# Altium footprint library QFP_Shrink_Sq_50P_Side_M.PcbLib: 32 footprints (part 2 of 3)
Each footprint in its own frame and in the unit in brackets; x right, y up, seen from the top. Pads: shape width x height; smd on the part's side, far side on the other; paste and mask are expansions set on the pad; w line width, h text height; cw(c..) or ccw(c..) is an arc to the next point about the centre after c.
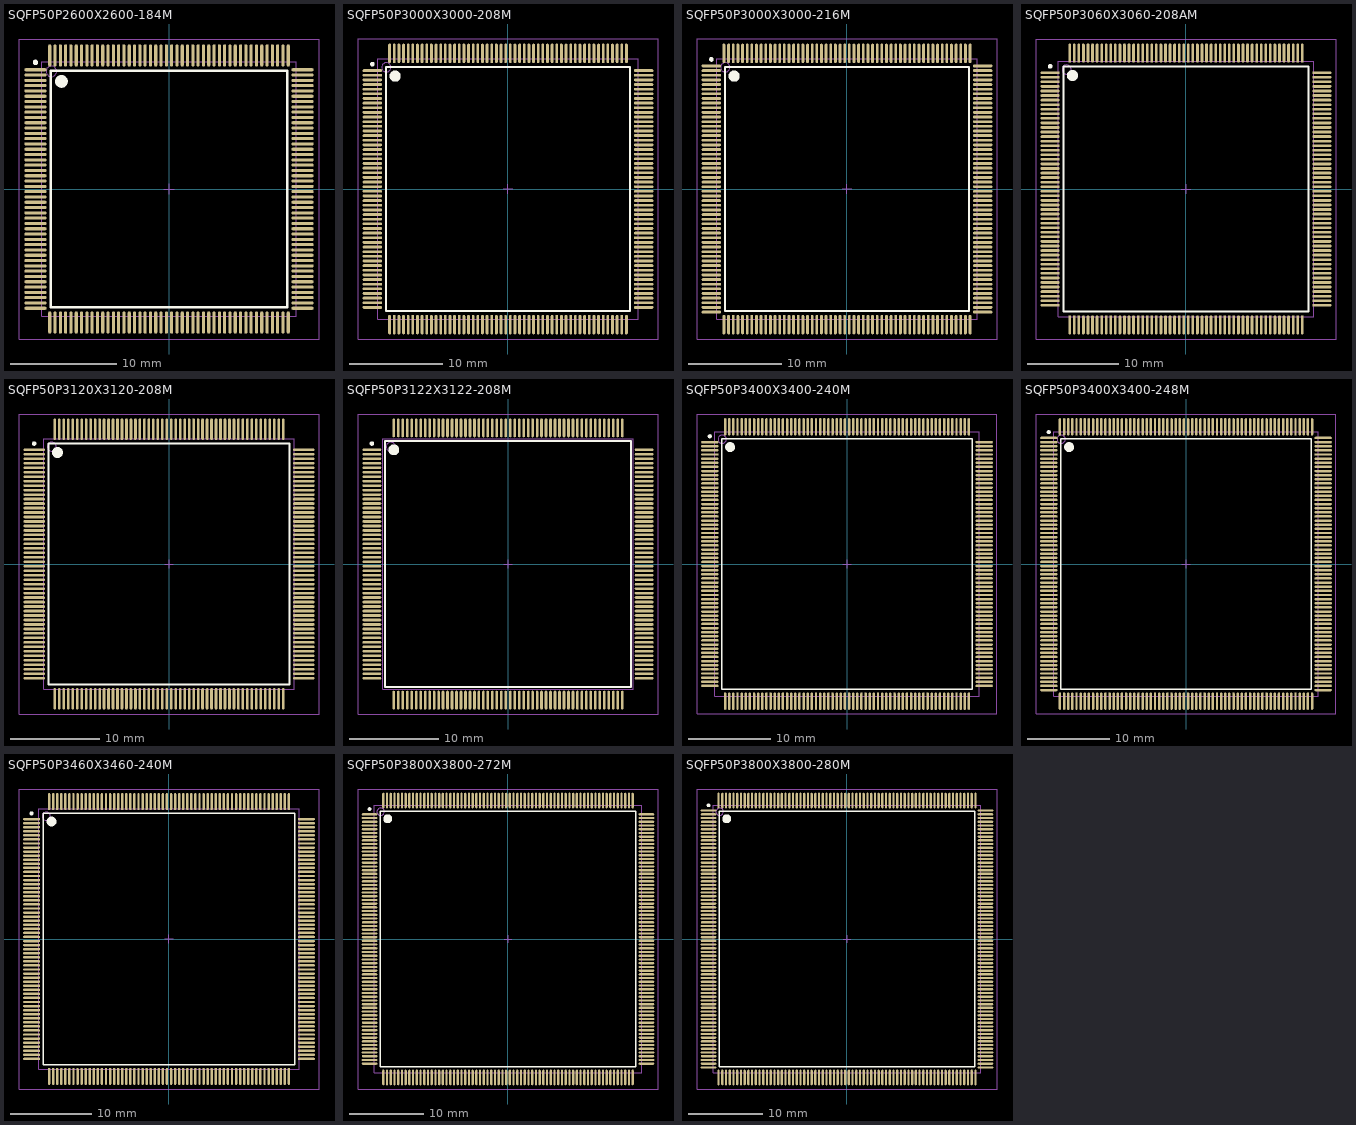
[diagram p1: the footprints below, top view; thin cyan lines are the x and y axes]

## SQFP50P2600X2600-184M [mm] "Shrink QFP, 184-Leads, Body 24x24mm, Pitch 0.5mm, IPC Low Density"
height 3.2
pads (184):
  oval 2.1x0.3 smd: 1(-12.6,11.25) 2(-12.6,10.75) 3(-12.6,10.25) 4(-12.6,9.75) 5(-12.6,9.25) 6(-12.6,8.75) 7(-12.6,8.25) 8(-12.6,7.75) 9(-12.6,7.25) 10(-12.6,6.75) 11(-12.6,6.25) 12(-12.6,5.75) 13(-12.6,5.25) 14(-12.6,4.75) 15(-12.6,4.25) 16(-12.6,3.75) 17(-12.6,3.25) 18(-12.6,2.75) 19(-12.6,2.25) 20(-12.6,1.75) 21(-12.6,1.25) 22(-12.6,0.75) 23(-12.6,0.25) 24(-12.6,-0.25) 25(-12.6,-0.75) 26(-12.6,-1.25) 27(-12.6,-1.75) 28(-12.6,-2.25) 29(-12.6,-2.75) 30(-12.6,-3.25) 31(-12.6,-3.75) 32(-12.6,-4.25) 33(-12.6,-4.75) 34(-12.6,-5.25) 35(-12.6,-5.75) 36(-12.6,-6.25) 37(-12.6,-6.75) 38(-12.6,-7.25) 39(-12.6,-7.75) 40(-12.6,-8.25) 41(-12.6,-8.75) 42(-12.6,-9.25) 43(-12.6,-9.75) 44(-12.6,-10.25) 45(-12.6,-10.75) 46(-12.6,-11.25) 93(12.6,-11.25) 94(12.6,-10.75) 95(12.6,-10.25) 96(12.6,-9.75) 97(12.6,-9.25) 98(12.6,-8.75) 99(12.6,-8.25) 100(12.6,-7.75) 101(12.6,-7.25) 102(12.6,-6.75) 103(12.6,-6.25) 104(12.6,-5.75) 105(12.6,-5.25) 106(12.6,-4.75) 107(12.6,-4.25) 108(12.6,-3.75) 109(12.6,-3.25) 110(12.6,-2.75) 111(12.6,-2.25) 112(12.6,-1.75) 113(12.6,-1.25) 114(12.6,-0.75) 115(12.6,-0.25) 116(12.6,0.25) 117(12.6,0.75) 118(12.6,1.25) 119(12.6,1.75) 120(12.6,2.25) 121(12.6,2.75) 122(12.6,3.25) 123(12.6,3.75) 124(12.6,4.25) 125(12.6,4.75) 126(12.6,5.25) 127(12.6,5.75) 128(12.6,6.25) 129(12.6,6.75) 130(12.6,7.25) 131(12.6,7.75) 132(12.6,8.25) 133(12.6,8.75) 134(12.6,9.25) 135(12.6,9.75) 136(12.6,10.25) 137(12.6,10.75) 138(12.6,11.25)
  oval 0.3x2.1 smd: 47(-11.25,-12.6) 48(-10.75,-12.6) 49(-10.25,-12.6) 50(-9.75,-12.6) 51(-9.25,-12.6) 52(-8.75,-12.6) 53(-8.25,-12.6) 54(-7.75,-12.6) 55(-7.25,-12.6) 56(-6.75,-12.6) 57(-6.25,-12.6) 58(-5.75,-12.6) 59(-5.25,-12.6) 60(-4.75,-12.6) 61(-4.25,-12.6) 62(-3.75,-12.6) 63(-3.25,-12.6) 64(-2.75,-12.6) 65(-2.25,-12.6) 66(-1.75,-12.6) 67(-1.25,-12.6) 68(-0.75,-12.6) 69(-0.25,-12.6) 70(0.25,-12.6) 71(0.75,-12.6) 72(1.25,-12.6) 73(1.75,-12.6) 74(2.25,-12.6) 75(2.75,-12.6) 76(3.25,-12.6) 77(3.75,-12.6) 78(4.25,-12.6) 79(4.75,-12.6) 80(5.25,-12.6) 81(5.75,-12.6) 82(6.25,-12.6) 83(6.75,-12.6) 84(7.25,-12.6) 85(7.75,-12.6) 86(8.25,-12.6) 87(8.75,-12.6) 88(9.25,-12.6) 89(9.75,-12.6) 90(10.25,-12.6) 91(10.75,-12.6) 92(11.25,-12.6) 139(11.25,12.6) 140(10.75,12.6) 141(10.25,12.6) 142(9.75,12.6) 143(9.25,12.6) 144(8.75,12.6) 145(8.25,12.6) 146(7.75,12.6) 147(7.25,12.6) 148(6.75,12.6) 149(6.25,12.6) 150(5.75,12.6) 151(5.25,12.6) 152(4.75,12.6) 153(4.25,12.6) 154(3.75,12.6) 155(3.25,12.6) 156(2.75,12.6) 157(2.25,12.6) 158(1.75,12.6) 159(1.25,12.6) 160(0.75,12.6) 161(0.25,12.6) 162(-0.25,12.6) 163(-0.75,12.6) 164(-1.25,12.6) 165(-1.75,12.6) 166(-2.25,12.6) 167(-2.75,12.6) 168(-3.25,12.6) 169(-3.75,12.6) 170(-4.25,12.6) 171(-4.75,12.6) 172(-5.25,12.6) 173(-5.75,12.6) 174(-6.25,12.6) 175(-6.75,12.6) 176(-7.25,12.6) 177(-7.75,12.6) 178(-8.25,12.6) 179(-8.75,12.6) 180(-9.25,12.6) 181(-9.75,12.6) 182(-10.25,12.6) 183(-10.75,12.6) 184(-11.25,12.6)
Top Overlay:
  circle w0.6: c-10.15,10.15 r0.3
  circle w0.25: c-12.6,11.95 r0.125
  lines w0.2: -11.15,-11.15 11.15,-11.15 11.15,11.15 -11.15,11.15 -11.15,-11.15
Mechanical 13:
  circle w0.1: c-11.1,11.1 r0.5
  lines w0.1: -12,-12 12,-12 12,12 -12,12 -12,-12
Mechanical 15:
  lines w0.1: -0.5,0 0.5,0 ; 0,-0.5 0,0.5 ; -14.15,-14.15 14.15,-14.15 14.15,14.15 -14.15,14.15 -14.15,-14.15
3D body: height 3.2, standoff 0, extent -12,-12 12,12

## SQFP50P3000X3000-208M [mm] "Shrink QFP, 208-Leads, Body 28x28mm, Pitch 0.5mm, IPC Low Density"
height 3.75
pads (208):
  oval 2.1x0.3 smd: 1(-14.6,12.75) 2(-14.6,12.25) 3(-14.6,11.75) 4(-14.6,11.25) 5(-14.6,10.75) 6(-14.6,10.25) 7(-14.6,9.75) 8(-14.6,9.25) 9(-14.6,8.75) 10(-14.6,8.25) 11(-14.6,7.75) 12(-14.6,7.25) 13(-14.6,6.75) 14(-14.6,6.25) 15(-14.6,5.75) 16(-14.6,5.25) 17(-14.6,4.75) 18(-14.6,4.25) 19(-14.6,3.75) 20(-14.6,3.25) 21(-14.6,2.75) 22(-14.6,2.25) 23(-14.6,1.75) 24(-14.6,1.25) 25(-14.6,0.75) 26(-14.6,0.25) 27(-14.6,-0.25) 28(-14.6,-0.75) 29(-14.6,-1.25) 30(-14.6,-1.75) 31(-14.6,-2.25) 32(-14.6,-2.75) 33(-14.6,-3.25) 34(-14.6,-3.75) 35(-14.6,-4.25) 36(-14.6,-4.75) 37(-14.6,-5.25) 38(-14.6,-5.75) 39(-14.6,-6.25) 40(-14.6,-6.75) 41(-14.6,-7.25) 42(-14.6,-7.75) 43(-14.6,-8.25) 44(-14.6,-8.75) 45(-14.6,-9.25) 46(-14.6,-9.75) 47(-14.6,-10.25) 48(-14.6,-10.75) 49(-14.6,-11.25) 50(-14.6,-11.75) 51(-14.6,-12.25) 52(-14.6,-12.75) 105(14.6,-12.75) 106(14.6,-12.25) 107(14.6,-11.75) 108(14.6,-11.25) 109(14.6,-10.75) 110(14.6,-10.25) 111(14.6,-9.75) 112(14.6,-9.25) 113(14.6,-8.75) 114(14.6,-8.25) 115(14.6,-7.75) 116(14.6,-7.25) 117(14.6,-6.75) 118(14.6,-6.25) 119(14.6,-5.75) 120(14.6,-5.25) 121(14.6,-4.75) 122(14.6,-4.25) 123(14.6,-3.75) 124(14.6,-3.25) 125(14.6,-2.75) 126(14.6,-2.25) 127(14.6,-1.75) 128(14.6,-1.25) 129(14.6,-0.75) 130(14.6,-0.25) 131(14.6,0.25) 132(14.6,0.75) 133(14.6,1.25) 134(14.6,1.75) 135(14.6,2.25) 136(14.6,2.75) 137(14.6,3.25) 138(14.6,3.75) 139(14.6,4.25) 140(14.6,4.75) 141(14.6,5.25) 142(14.6,5.75) 143(14.6,6.25) 144(14.6,6.75) 145(14.6,7.25) 146(14.6,7.75) 147(14.6,8.25) 148(14.6,8.75) 149(14.6,9.25) 150(14.6,9.75) 151(14.6,10.25) 152(14.6,10.75) 153(14.6,11.25) 154(14.6,11.75) 155(14.6,12.25) 156(14.6,12.75)
  oval 0.3x2.1 smd: 53(-12.75,-14.6) 54(-12.25,-14.6) 55(-11.75,-14.6) 56(-11.25,-14.6) 57(-10.75,-14.6) 58(-10.25,-14.6) 59(-9.75,-14.6) 60(-9.25,-14.6) 61(-8.75,-14.6) 62(-8.25,-14.6) 63(-7.75,-14.6) 64(-7.25,-14.6) 65(-6.75,-14.6) 66(-6.25,-14.6) 67(-5.75,-14.6) 68(-5.25,-14.6) 69(-4.75,-14.6) 70(-4.25,-14.6) 71(-3.75,-14.6) 72(-3.25,-14.6) 73(-2.75,-14.6) 74(-2.25,-14.6) 75(-1.75,-14.6) 76(-1.25,-14.6) 77(-0.75,-14.6) 78(-0.25,-14.6) 79(0.25,-14.6) 80(0.75,-14.6) 81(1.25,-14.6) 82(1.75,-14.6) 83(2.25,-14.6) 84(2.75,-14.6) 85(3.25,-14.6) 86(3.75,-14.6) 87(4.25,-14.6) 88(4.75,-14.6) 89(5.25,-14.6) 90(5.75,-14.6) 91(6.25,-14.6) 92(6.75,-14.6) 93(7.25,-14.6) 94(7.75,-14.6) 95(8.25,-14.6) 96(8.75,-14.6) 97(9.25,-14.6) 98(9.75,-14.6) 99(10.25,-14.6) 100(10.75,-14.6) 101(11.25,-14.6) 102(11.75,-14.6) 103(12.25,-14.6) 104(12.75,-14.6) 157(12.75,14.6) 158(12.25,14.6) 159(11.75,14.6) 160(11.25,14.6) 161(10.75,14.6) 162(10.25,14.6) 163(9.75,14.6) 164(9.25,14.6) 165(8.75,14.6) 166(8.25,14.6) 167(7.75,14.6) 168(7.25,14.6) 169(6.75,14.6) 170(6.25,14.6) 171(5.75,14.6) 172(5.25,14.6) 173(4.75,14.6) 174(4.25,14.6) 175(3.75,14.6) 176(3.25,14.6) 177(2.75,14.6) 178(2.25,14.6) 179(1.75,14.6) 180(1.25,14.6) 181(0.75,14.6) 182(0.25,14.6) 183(-0.25,14.6) 184(-0.75,14.6) 185(-1.25,14.6) 186(-1.75,14.6) 187(-2.25,14.6) 188(-2.75,14.6) 189(-3.25,14.6) 190(-3.75,14.6) 191(-4.25,14.6) 192(-4.75,14.6) 193(-5.25,14.6) 194(-5.75,14.6) 195(-6.25,14.6) 196(-6.75,14.6) 197(-7.25,14.6) 198(-7.75,14.6) 199(-8.25,14.6) 200(-8.75,14.6) 201(-9.25,14.6) 202(-9.75,14.6) 203(-10.25,14.6) 204(-10.75,14.6) 205(-11.25,14.6) 206(-11.75,14.6) 207(-12.25,14.6) 208(-12.75,14.6)
Top Overlay:
  circle w0.6: c-12.15,12.15 r0.3
  circle w0.25: c-14.6,13.45 r0.125
  lines w0.2: -13.15,-13.15 13.15,-13.15 13.15,13.15 -13.15,13.15 -13.15,-13.15
Mechanical 13:
  circle w0.1: c-13.1,13.1 r0.5
  lines w0.1: -14,-14 14,-14 14,14 -14,14 -14,-14
Mechanical 15:
  lines w0.1: -0.5,0 0.5,0 ; 0,-0.5 0,0.5 ; -16.15,-16.15 16.15,-16.15 16.15,16.15 -16.15,16.15 -16.15,-16.15
3D body: height 3.75, standoff 0, extent -14,-14 14,14

## SQFP50P3000X3000-216M [mm] "Shrink QFP, 216-Leads, Body 28x28mm, Pitch 0.5mm, IPC Low Density"
height 3.75
pads (216):
  oval 2.1x0.3 smd: 1(-14.6,13.25) 2(-14.6,12.75) 3(-14.6,12.25) 4(-14.6,11.75) 5(-14.6,11.25) 6(-14.6,10.75) 7(-14.6,10.25) 8(-14.6,9.75) 9(-14.6,9.25) 10(-14.6,8.75) 11(-14.6,8.25) 12(-14.6,7.75) 13(-14.6,7.25) 14(-14.6,6.75) 15(-14.6,6.25) 16(-14.6,5.75) 17(-14.6,5.25) 18(-14.6,4.75) 19(-14.6,4.25) 20(-14.6,3.75) 21(-14.6,3.25) 22(-14.6,2.75) 23(-14.6,2.25) 24(-14.6,1.75) 25(-14.6,1.25) 26(-14.6,0.75) 27(-14.6,0.25) 28(-14.6,-0.25) 29(-14.6,-0.75) 30(-14.6,-1.25) 31(-14.6,-1.75) 32(-14.6,-2.25) 33(-14.6,-2.75) 34(-14.6,-3.25) 35(-14.6,-3.75) 36(-14.6,-4.25) 37(-14.6,-4.75) 38(-14.6,-5.25) 39(-14.6,-5.75) 40(-14.6,-6.25) 41(-14.6,-6.75) 42(-14.6,-7.25) 43(-14.6,-7.75) 44(-14.6,-8.25) 45(-14.6,-8.75) 46(-14.6,-9.25) 47(-14.6,-9.75) 48(-14.6,-10.25) 49(-14.6,-10.75) 50(-14.6,-11.25) 51(-14.6,-11.75) 52(-14.6,-12.25) 53(-14.6,-12.75) 54(-14.6,-13.25) 109(14.6,-13.25) 110(14.6,-12.75) 111(14.6,-12.25) 112(14.6,-11.75) 113(14.6,-11.25) 114(14.6,-10.75) 115(14.6,-10.25) 116(14.6,-9.75) 117(14.6,-9.25) 118(14.6,-8.75) 119(14.6,-8.25) 120(14.6,-7.75) 121(14.6,-7.25) 122(14.6,-6.75) 123(14.6,-6.25) 124(14.6,-5.75) 125(14.6,-5.25) 126(14.6,-4.75) 127(14.6,-4.25) 128(14.6,-3.75) 129(14.6,-3.25) 130(14.6,-2.75) 131(14.6,-2.25) 132(14.6,-1.75) 133(14.6,-1.25) 134(14.6,-0.75) 135(14.6,-0.25) 136(14.6,0.25) 137(14.6,0.75) 138(14.6,1.25) 139(14.6,1.75) 140(14.6,2.25) 141(14.6,2.75) 142(14.6,3.25) 143(14.6,3.75) 144(14.6,4.25) 145(14.6,4.75) 146(14.6,5.25) 147(14.6,5.75) 148(14.6,6.25) 149(14.6,6.75) 150(14.6,7.25) 151(14.6,7.75) 152(14.6,8.25) 153(14.6,8.75) 154(14.6,9.25) 155(14.6,9.75) 156(14.6,10.25) 157(14.6,10.75) 158(14.6,11.25) 159(14.6,11.75) 160(14.6,12.25) 161(14.6,12.75) 162(14.6,13.25)
  oval 0.3x2.1 smd: 55(-13.25,-14.6) 56(-12.75,-14.6) 57(-12.25,-14.6) 58(-11.75,-14.6) 59(-11.25,-14.6) 60(-10.75,-14.6) 61(-10.25,-14.6) 62(-9.75,-14.6) 63(-9.25,-14.6) 64(-8.75,-14.6) 65(-8.25,-14.6) 66(-7.75,-14.6) 67(-7.25,-14.6) 68(-6.75,-14.6) 69(-6.25,-14.6) 70(-5.75,-14.6) 71(-5.25,-14.6) 72(-4.75,-14.6) 73(-4.25,-14.6) 74(-3.75,-14.6) 75(-3.25,-14.6) 76(-2.75,-14.6) 77(-2.25,-14.6) 78(-1.75,-14.6) 79(-1.25,-14.6) 80(-0.75,-14.6) 81(-0.25,-14.6) 82(0.25,-14.6) 83(0.75,-14.6) 84(1.25,-14.6) 85(1.75,-14.6) 86(2.25,-14.6) 87(2.75,-14.6) 88(3.25,-14.6) 89(3.75,-14.6) 90(4.25,-14.6) 91(4.75,-14.6) 92(5.25,-14.6) 93(5.75,-14.6) 94(6.25,-14.6) 95(6.75,-14.6) 96(7.25,-14.6) 97(7.75,-14.6) 98(8.25,-14.6) 99(8.75,-14.6) 100(9.25,-14.6) 101(9.75,-14.6) 102(10.25,-14.6) 103(10.75,-14.6) 104(11.25,-14.6) 105(11.75,-14.6) 106(12.25,-14.6) 107(12.75,-14.6) 108(13.25,-14.6) 163(13.25,14.6) 164(12.75,14.6) 165(12.25,14.6) 166(11.75,14.6) 167(11.25,14.6) 168(10.75,14.6) 169(10.25,14.6) 170(9.75,14.6) 171(9.25,14.6) 172(8.75,14.6) 173(8.25,14.6) 174(7.75,14.6) 175(7.25,14.6) 176(6.75,14.6) 177(6.25,14.6) 178(5.75,14.6) 179(5.25,14.6) 180(4.75,14.6) 181(4.25,14.6) 182(3.75,14.6) 183(3.25,14.6) 184(2.75,14.6) 185(2.25,14.6) 186(1.75,14.6) 187(1.25,14.6) 188(0.75,14.6) 189(0.25,14.6) 190(-0.25,14.6) 191(-0.75,14.6) 192(-1.25,14.6) 193(-1.75,14.6) 194(-2.25,14.6) 195(-2.75,14.6) 196(-3.25,14.6) 197(-3.75,14.6) 198(-4.25,14.6) 199(-4.75,14.6) 200(-5.25,14.6) 201(-5.75,14.6) 202(-6.25,14.6) 203(-6.75,14.6) 204(-7.25,14.6) 205(-7.75,14.6) 206(-8.25,14.6) 207(-8.75,14.6) 208(-9.25,14.6) 209(-9.75,14.6) 210(-10.25,14.6) 211(-10.75,14.6) 212(-11.25,14.6) 213(-11.75,14.6) 214(-12.25,14.6) 215(-12.75,14.6) 216(-13.25,14.6)
Top Overlay:
  circle w0.6: c-12.15,12.15 r0.3
  circle w0.25: c-14.6,13.95 r0.125
  lines w0.2: -13.15,-13.15 13.15,-13.15 13.15,13.15 -13.15,13.15 -13.15,-13.15
Mechanical 13:
  circle w0.1: c-13.1,13.1 r0.5
  lines w0.1: -14,-14 14,-14 14,14 -14,14 -14,-14
Mechanical 15:
  lines w0.1: -0.5,0 0.5,0 ; 0,-0.5 0,0.5 ; -16.15,-16.15 16.15,-16.15 16.15,16.15 -16.15,16.15 -16.15,-16.15
3D body: height 3.75, standoff 0, extent -14,-14 14,14

## SQFP50P3060X3060-208AM [mm] "Shrink QFP, 208-Leads, Body 28x28mm, Pitch 0.5mm, IPC Low Density"
height 4.1
pads (208):
  oval 2.1x0.3 smd: 1(-14.9,12.75) 2(-14.9,12.25) 3(-14.9,11.75) 4(-14.9,11.25) 5(-14.9,10.75) 6(-14.9,10.25) 7(-14.9,9.75) 8(-14.9,9.25) 9(-14.9,8.75) 10(-14.9,8.25) 11(-14.9,7.75) 12(-14.9,7.25) 13(-14.9,6.75) 14(-14.9,6.25) 15(-14.9,5.75) 16(-14.9,5.25) 17(-14.9,4.75) 18(-14.9,4.25) 19(-14.9,3.75) 20(-14.9,3.25) 21(-14.9,2.75) 22(-14.9,2.25) 23(-14.9,1.75) 24(-14.9,1.25) 25(-14.9,0.75) 26(-14.9,0.25) 27(-14.9,-0.25) 28(-14.9,-0.75) 29(-14.9,-1.25) 30(-14.9,-1.75) 31(-14.9,-2.25) 32(-14.9,-2.75) 33(-14.9,-3.25) 34(-14.9,-3.75) 35(-14.9,-4.25) 36(-14.9,-4.75) 37(-14.9,-5.25) 38(-14.9,-5.75) 39(-14.9,-6.25) 40(-14.9,-6.75) 41(-14.9,-7.25) 42(-14.9,-7.75) 43(-14.9,-8.25) 44(-14.9,-8.75) 45(-14.9,-9.25) 46(-14.9,-9.75) 47(-14.9,-10.25) 48(-14.9,-10.75) 49(-14.9,-11.25) 50(-14.9,-11.75) 51(-14.9,-12.25) 52(-14.9,-12.75) 105(14.9,-12.75) 106(14.9,-12.25) 107(14.9,-11.75) 108(14.9,-11.25) 109(14.9,-10.75) 110(14.9,-10.25) 111(14.9,-9.75) 112(14.9,-9.25) 113(14.9,-8.75) 114(14.9,-8.25) 115(14.9,-7.75) 116(14.9,-7.25) 117(14.9,-6.75) 118(14.9,-6.25) 119(14.9,-5.75) 120(14.9,-5.25) 121(14.9,-4.75) 122(14.9,-4.25) 123(14.9,-3.75) 124(14.9,-3.25) 125(14.9,-2.75) 126(14.9,-2.25) 127(14.9,-1.75) 128(14.9,-1.25) 129(14.9,-0.75) 130(14.9,-0.25) 131(14.9,0.25) 132(14.9,0.75) 133(14.9,1.25) 134(14.9,1.75) 135(14.9,2.25) 136(14.9,2.75) 137(14.9,3.25) 138(14.9,3.75) 139(14.9,4.25) 140(14.9,4.75) 141(14.9,5.25) 142(14.9,5.75) 143(14.9,6.25) 144(14.9,6.75) 145(14.9,7.25) 146(14.9,7.75) 147(14.9,8.25) 148(14.9,8.75) 149(14.9,9.25) 150(14.9,9.75) 151(14.9,10.25) 152(14.9,10.75) 153(14.9,11.25) 154(14.9,11.75) 155(14.9,12.25) 156(14.9,12.75)
  oval 0.3x2.1 smd: 53(-12.75,-14.9) 54(-12.25,-14.9) 55(-11.75,-14.9) 56(-11.25,-14.9) 57(-10.75,-14.9) 58(-10.25,-14.9) 59(-9.75,-14.9) 60(-9.25,-14.9) 61(-8.75,-14.9) 62(-8.25,-14.9) 63(-7.75,-14.9) 64(-7.25,-14.9) 65(-6.75,-14.9) 66(-6.25,-14.9) 67(-5.75,-14.9) 68(-5.25,-14.9) 69(-4.75,-14.9) 70(-4.25,-14.9) 71(-3.75,-14.9) 72(-3.25,-14.9) 73(-2.75,-14.9) 74(-2.25,-14.9) 75(-1.75,-14.9) 76(-1.25,-14.9) 77(-0.75,-14.9) 78(-0.25,-14.9) 79(0.25,-14.9) 80(0.75,-14.9) 81(1.25,-14.9) 82(1.75,-14.9) 83(2.25,-14.9) 84(2.75,-14.9) 85(3.25,-14.9) 86(3.75,-14.9) 87(4.25,-14.9) 88(4.75,-14.9) 89(5.25,-14.9) 90(5.75,-14.9) 91(6.25,-14.9) 92(6.75,-14.9) 93(7.25,-14.9) 94(7.75,-14.9) 95(8.25,-14.9) 96(8.75,-14.9) 97(9.25,-14.9) 98(9.75,-14.9) 99(10.25,-14.9) 100(10.75,-14.9) 101(11.25,-14.9) 102(11.75,-14.9) 103(12.25,-14.9) 104(12.75,-14.9) 157(12.75,14.9) 158(12.25,14.9) 159(11.75,14.9) 160(11.25,14.9) 161(10.75,14.9) 162(10.25,14.9) 163(9.75,14.9) 164(9.25,14.9) 165(8.75,14.9) 166(8.25,14.9) 167(7.75,14.9) 168(7.25,14.9) 169(6.75,14.9) 170(6.25,14.9) 171(5.75,14.9) 172(5.25,14.9) 173(4.75,14.9) 174(4.25,14.9) 175(3.75,14.9) 176(3.25,14.9) 177(2.75,14.9) 178(2.25,14.9) 179(1.75,14.9) 180(1.25,14.9) 181(0.75,14.9) 182(0.25,14.9) 183(-0.25,14.9) 184(-0.75,14.9) 185(-1.25,14.9) 186(-1.75,14.9) 187(-2.25,14.9) 188(-2.75,14.9) 189(-3.25,14.9) 190(-3.75,14.9) 191(-4.25,14.9) 192(-4.75,14.9) 193(-5.25,14.9) 194(-5.75,14.9) 195(-6.25,14.9) 196(-6.75,14.9) 197(-7.25,14.9) 198(-7.75,14.9) 199(-8.25,14.9) 200(-8.75,14.9) 201(-9.25,14.9) 202(-9.75,14.9) 203(-10.25,14.9) 204(-10.75,14.9) 205(-11.25,14.9) 206(-11.75,14.9) 207(-12.25,14.9) 208(-12.75,14.9)
Top Overlay:
  circle w0.6: c-12.45,12.45 r0.3
  circle w0.25: c-14.9,13.45 r0.125
  lines w0.2: -13.45,-13.45 13.45,-13.45 13.45,13.45 -13.45,13.45 -13.45,-13.45
Mechanical 13:
  circle w0.1: c-13.1,13.1 r0.5
  lines w0.1: -14,-14 14,-14 14,14 -14,14 -14,-14
Mechanical 15:
  lines w0.1: -0.5,0 0.5,0 ; 0,-0.5 0,0.5 ; -16.45,-16.45 16.45,-16.45 16.45,16.45 -16.45,16.45 -16.45,-16.45
3D body: height 4.1, standoff 0, extent -14,-14 14,14

## SQFP50P3120X3120-208M [mm] "Shrink QFP, 208-Leads, Body 28x28mm, Pitch 0.5mm, IPC Low Density"
height 4.1
pads (208):
  oval 2.4x0.3 smd: 1(-15.05,12.75) 2(-15.05,12.25) 3(-15.05,11.75) 4(-15.05,11.25) 5(-15.05,10.75) 6(-15.05,10.25) 7(-15.05,9.75) 8(-15.05,9.25) 9(-15.05,8.75) 10(-15.05,8.25) 11(-15.05,7.75) 12(-15.05,7.25) 13(-15.05,6.75) 14(-15.05,6.25) 15(-15.05,5.75) 16(-15.05,5.25) 17(-15.05,4.75) 18(-15.05,4.25) 19(-15.05,3.75) 20(-15.05,3.25) 21(-15.05,2.75) 22(-15.05,2.25) 23(-15.05,1.75) 24(-15.05,1.25) 25(-15.05,0.75) 26(-15.05,0.25) 27(-15.05,-0.25) 28(-15.05,-0.75) 29(-15.05,-1.25) 30(-15.05,-1.75) 31(-15.05,-2.25) 32(-15.05,-2.75) 33(-15.05,-3.25) 34(-15.05,-3.75) 35(-15.05,-4.25) 36(-15.05,-4.75) 37(-15.05,-5.25) 38(-15.05,-5.75) 39(-15.05,-6.25) 40(-15.05,-6.75) 41(-15.05,-7.25) 42(-15.05,-7.75) 43(-15.05,-8.25) 44(-15.05,-8.75) 45(-15.05,-9.25) 46(-15.05,-9.75) 47(-15.05,-10.25) 48(-15.05,-10.75) 49(-15.05,-11.25) 50(-15.05,-11.75) 51(-15.05,-12.25) 52(-15.05,-12.75) 105(15.05,-12.75) 106(15.05,-12.25) 107(15.05,-11.75) 108(15.05,-11.25) 109(15.05,-10.75) 110(15.05,-10.25) 111(15.05,-9.75) 112(15.05,-9.25) 113(15.05,-8.75) 114(15.05,-8.25) 115(15.05,-7.75) 116(15.05,-7.25) 117(15.05,-6.75) 118(15.05,-6.25) 119(15.05,-5.75) 120(15.05,-5.25) 121(15.05,-4.75) 122(15.05,-4.25) 123(15.05,-3.75) 124(15.05,-3.25) 125(15.05,-2.75) 126(15.05,-2.25) 127(15.05,-1.75) 128(15.05,-1.25) 129(15.05,-0.75) 130(15.05,-0.25) 131(15.05,0.25) 132(15.05,0.75) 133(15.05,1.25) 134(15.05,1.75) 135(15.05,2.25) 136(15.05,2.75) 137(15.05,3.25) 138(15.05,3.75) 139(15.05,4.25) 140(15.05,4.75) 141(15.05,5.25) 142(15.05,5.75) 143(15.05,6.25) 144(15.05,6.75) 145(15.05,7.25) 146(15.05,7.75) 147(15.05,8.25) 148(15.05,8.75) 149(15.05,9.25) 150(15.05,9.75) 151(15.05,10.25) 152(15.05,10.75) 153(15.05,11.25) 154(15.05,11.75) 155(15.05,12.25) 156(15.05,12.75)
  oval 0.3x2.4 smd: 53(-12.75,-15.05) 54(-12.25,-15.05) 55(-11.75,-15.05) 56(-11.25,-15.05) 57(-10.75,-15.05) 58(-10.25,-15.05) 59(-9.75,-15.05) 60(-9.25,-15.05) 61(-8.75,-15.05) 62(-8.25,-15.05) 63(-7.75,-15.05) 64(-7.25,-15.05) 65(-6.75,-15.05) 66(-6.25,-15.05) 67(-5.75,-15.05) 68(-5.25,-15.05) 69(-4.75,-15.05) 70(-4.25,-15.05) 71(-3.75,-15.05) 72(-3.25,-15.05) 73(-2.75,-15.05) 74(-2.25,-15.05) 75(-1.75,-15.05) 76(-1.25,-15.05) 77(-0.75,-15.05) 78(-0.25,-15.05) 79(0.25,-15.05) 80(0.75,-15.05) 81(1.25,-15.05) 82(1.75,-15.05) 83(2.25,-15.05) 84(2.75,-15.05) 85(3.25,-15.05) 86(3.75,-15.05) 87(4.25,-15.05) 88(4.75,-15.05) 89(5.25,-15.05) 90(5.75,-15.05) 91(6.25,-15.05) 92(6.75,-15.05) 93(7.25,-15.05) 94(7.75,-15.05) 95(8.25,-15.05) 96(8.75,-15.05) 97(9.25,-15.05) 98(9.75,-15.05) 99(10.25,-15.05) 100(10.75,-15.05) 101(11.25,-15.05) 102(11.75,-15.05) 103(12.25,-15.05) 104(12.75,-15.05) 157(12.75,15.05) 158(12.25,15.05) 159(11.75,15.05) 160(11.25,15.05) 161(10.75,15.05) 162(10.25,15.05) 163(9.75,15.05) 164(9.25,15.05) 165(8.75,15.05) 166(8.25,15.05) 167(7.75,15.05) 168(7.25,15.05) 169(6.75,15.05) 170(6.25,15.05) 171(5.75,15.05) 172(5.25,15.05) 173(4.75,15.05) 174(4.25,15.05) 175(3.75,15.05) 176(3.25,15.05) 177(2.75,15.05) 178(2.25,15.05) 179(1.75,15.05) 180(1.25,15.05) 181(0.75,15.05) 182(0.25,15.05) 183(-0.25,15.05) 184(-0.75,15.05) 185(-1.25,15.05) 186(-1.75,15.05) 187(-2.25,15.05) 188(-2.75,15.05) 189(-3.25,15.05) 190(-3.75,15.05) 191(-4.25,15.05) 192(-4.75,15.05) 193(-5.25,15.05) 194(-5.75,15.05) 195(-6.25,15.05) 196(-6.75,15.05) 197(-7.25,15.05) 198(-7.75,15.05) 199(-8.25,15.05) 200(-8.75,15.05) 201(-9.25,15.05) 202(-9.75,15.05) 203(-10.25,15.05) 204(-10.75,15.05) 205(-11.25,15.05) 206(-11.75,15.05) 207(-12.25,15.05) 208(-12.75,15.05)
Top Overlay:
  circle w0.6: c-12.45,12.45 r0.3
  circle w0.25: c-15.05,13.45 r0.125
  lines w0.2: -13.45,-13.45 13.45,-13.45 13.45,13.45 -13.45,13.45 -13.45,-13.45
Mechanical 13:
  circle w0.1: c-13.1,13.1 r0.5
  lines w0.1: -14,-14 14,-14 14,14 -14,14 -14,-14
Mechanical 15:
  lines w0.1: -0.5,0 0.5,0 ; 0,-0.5 0,0.5 ; -16.75,-16.75 16.75,-16.75 16.75,16.75 -16.75,16.75 -16.75,-16.75
3D body: height 4.1, standoff 0, extent -14,-14 14,14

## SQFP50P3122X3122-208M [mm] "Shrink QFP, 208-Leads, Body 28x28mm, Pitch 0.5mm, IPC Low Density"
height 2.94
pads (208):
  oval 2.1x0.3 smd: 1(-15.2,12.75) 2(-15.2,12.25) 3(-15.2,11.75) 4(-15.2,11.25) 5(-15.2,10.75) 6(-15.2,10.25) 7(-15.2,9.75) 8(-15.2,9.25) 9(-15.2,8.75) 10(-15.2,8.25) 11(-15.2,7.75) 12(-15.2,7.25) 13(-15.2,6.75) 14(-15.2,6.25) 15(-15.2,5.75) 16(-15.2,5.25) 17(-15.2,4.75) 18(-15.2,4.25) 19(-15.2,3.75) 20(-15.2,3.25) 21(-15.2,2.75) 22(-15.2,2.25) 23(-15.2,1.75) 24(-15.2,1.25) 25(-15.2,0.75) 26(-15.2,0.25) 27(-15.2,-0.25) 28(-15.2,-0.75) 29(-15.2,-1.25) 30(-15.2,-1.75) 31(-15.2,-2.25) 32(-15.2,-2.75) 33(-15.2,-3.25) 34(-15.2,-3.75) 35(-15.2,-4.25) 36(-15.2,-4.75) 37(-15.2,-5.25) 38(-15.2,-5.75) 39(-15.2,-6.25) 40(-15.2,-6.75) 41(-15.2,-7.25) 42(-15.2,-7.75) 43(-15.2,-8.25) 44(-15.2,-8.75) 45(-15.2,-9.25) 46(-15.2,-9.75) 47(-15.2,-10.25) 48(-15.2,-10.75) 49(-15.2,-11.25) 50(-15.2,-11.75) 51(-15.2,-12.25) 52(-15.2,-12.75) 105(15.2,-12.75) 106(15.2,-12.25) 107(15.2,-11.75) 108(15.2,-11.25) 109(15.2,-10.75) 110(15.2,-10.25) 111(15.2,-9.75) 112(15.2,-9.25) 113(15.2,-8.75) 114(15.2,-8.25) 115(15.2,-7.75) 116(15.2,-7.25) 117(15.2,-6.75) 118(15.2,-6.25) 119(15.2,-5.75) 120(15.2,-5.25) 121(15.2,-4.75) 122(15.2,-4.25) 123(15.2,-3.75) 124(15.2,-3.25) 125(15.2,-2.75) 126(15.2,-2.25) 127(15.2,-1.75) 128(15.2,-1.25) 129(15.2,-0.75) 130(15.2,-0.25) 131(15.2,0.25) 132(15.2,0.75) 133(15.2,1.25) 134(15.2,1.75) 135(15.2,2.25) 136(15.2,2.75) 137(15.2,3.25) 138(15.2,3.75) 139(15.2,4.25) 140(15.2,4.75) 141(15.2,5.25) 142(15.2,5.75) 143(15.2,6.25) 144(15.2,6.75) 145(15.2,7.25) 146(15.2,7.75) 147(15.2,8.25) 148(15.2,8.75) 149(15.2,9.25) 150(15.2,9.75) 151(15.2,10.25) 152(15.2,10.75) 153(15.2,11.25) 154(15.2,11.75) 155(15.2,12.25) 156(15.2,12.75)
  oval 0.3x2.1 smd: 53(-12.75,-15.2) 54(-12.25,-15.2) 55(-11.75,-15.2) 56(-11.25,-15.2) 57(-10.75,-15.2) 58(-10.25,-15.2) 59(-9.75,-15.2) 60(-9.25,-15.2) 61(-8.75,-15.2) 62(-8.25,-15.2) 63(-7.75,-15.2) 64(-7.25,-15.2) 65(-6.75,-15.2) 66(-6.25,-15.2) 67(-5.75,-15.2) 68(-5.25,-15.2) 69(-4.75,-15.2) 70(-4.25,-15.2) 71(-3.75,-15.2) 72(-3.25,-15.2) 73(-2.75,-15.2) 74(-2.25,-15.2) 75(-1.75,-15.2) 76(-1.25,-15.2) 77(-0.75,-15.2) 78(-0.25,-15.2) 79(0.25,-15.2) 80(0.75,-15.2) 81(1.25,-15.2) 82(1.75,-15.2) 83(2.25,-15.2) 84(2.75,-15.2) 85(3.25,-15.2) 86(3.75,-15.2) 87(4.25,-15.2) 88(4.75,-15.2) 89(5.25,-15.2) 90(5.75,-15.2) 91(6.25,-15.2) 92(6.75,-15.2) 93(7.25,-15.2) 94(7.75,-15.2) 95(8.25,-15.2) 96(8.75,-15.2) 97(9.25,-15.2) 98(9.75,-15.2) 99(10.25,-15.2) 100(10.75,-15.2) 101(11.25,-15.2) 102(11.75,-15.2) 103(12.25,-15.2) 104(12.75,-15.2) 157(12.75,15.2) 158(12.25,15.2) 159(11.75,15.2) 160(11.25,15.2) 161(10.75,15.2) 162(10.25,15.2) 163(9.75,15.2) 164(9.25,15.2) 165(8.75,15.2) 166(8.25,15.2) 167(7.75,15.2) 168(7.25,15.2) 169(6.75,15.2) 170(6.25,15.2) 171(5.75,15.2) 172(5.25,15.2) 173(4.75,15.2) 174(4.25,15.2) 175(3.75,15.2) 176(3.25,15.2) 177(2.75,15.2) 178(2.25,15.2) 179(1.75,15.2) 180(1.25,15.2) 181(0.75,15.2) 182(0.25,15.2) 183(-0.25,15.2) 184(-0.75,15.2) 185(-1.25,15.2) 186(-1.75,15.2) 187(-2.25,15.2) 188(-2.75,15.2) 189(-3.25,15.2) 190(-3.75,15.2) 191(-4.25,15.2) 192(-4.75,15.2) 193(-5.25,15.2) 194(-5.75,15.2) 195(-6.25,15.2) 196(-6.75,15.2) 197(-7.25,15.2) 198(-7.75,15.2) 199(-8.25,15.2) 200(-8.75,15.2) 201(-9.25,15.2) 202(-9.75,15.2) 203(-10.25,15.2) 204(-10.75,15.2) 205(-11.25,15.2) 206(-11.75,15.2) 207(-12.25,15.2) 208(-12.75,15.2)
Top Overlay:
  circle w0.6: c-12.75,12.75 r0.3
  circle w0.25: c-15.2,13.45 r0.125
  lines w0.2: -13.75,-13.75 13.75,-13.75 13.75,13.75 -13.75,13.75 -13.75,-13.75
Mechanical 13:
  circle w0.1: c-13.1,13.1 r0.5
  lines w0.1: -14,-14 14,-14 14,14 -14,14 -14,-14
Mechanical 15:
  lines w0.1: -0.5,0 0.5,0 ; 0,-0.5 0,0.5 ; -16.75,-16.75 16.75,-16.75 16.75,16.75 -16.75,16.75 -16.75,-16.75
3D body: height 2.94, standoff 0, extent -14,-14 14,14

## SQFP50P3400X3400-240M [mm] "Shrink QFP, 240-Leads, Body 32x32mm, Pitch 0.5mm, IPC Low Density"
height 4.2
pads (240):
  oval 2.1x0.3 smd: 1(-16.6,14.75) 2(-16.6,14.25) 3(-16.6,13.75) 4(-16.6,13.25) 5(-16.6,12.75) 6(-16.6,12.25) 7(-16.6,11.75) 8(-16.6,11.25) 9(-16.6,10.75) 10(-16.6,10.25) 11(-16.6,9.75) 12(-16.6,9.25) 13(-16.6,8.75) 14(-16.6,8.25) 15(-16.6,7.75) 16(-16.6,7.25) 17(-16.6,6.75) 18(-16.6,6.25) 19(-16.6,5.75) 20(-16.6,5.25) 21(-16.6,4.75) 22(-16.6,4.25) 23(-16.6,3.75) 24(-16.6,3.25) 25(-16.6,2.75) 26(-16.6,2.25) 27(-16.6,1.75) 28(-16.6,1.25) 29(-16.6,0.75) 30(-16.6,0.25) 31(-16.6,-0.25) 32(-16.6,-0.75) 33(-16.6,-1.25) 34(-16.6,-1.75) 35(-16.6,-2.25) 36(-16.6,-2.75) 37(-16.6,-3.25) 38(-16.6,-3.75) 39(-16.6,-4.25) 40(-16.6,-4.75) 41(-16.6,-5.25) 42(-16.6,-5.75) 43(-16.6,-6.25) 44(-16.6,-6.75) 45(-16.6,-7.25) 46(-16.6,-7.75) 47(-16.6,-8.25) 48(-16.6,-8.75) 49(-16.6,-9.25) 50(-16.6,-9.75) 51(-16.6,-10.25) 52(-16.6,-10.75) 53(-16.6,-11.25) 54(-16.6,-11.75) 55(-16.6,-12.25) 56(-16.6,-12.75) 57(-16.6,-13.25) 58(-16.6,-13.75) 59(-16.6,-14.25) 60(-16.6,-14.75) 121(16.6,-14.75) 122(16.6,-14.25) 123(16.6,-13.75) 124(16.6,-13.25) 125(16.6,-12.75) 126(16.6,-12.25) 127(16.6,-11.75) 128(16.6,-11.25) 129(16.6,-10.75) 130(16.6,-10.25) 131(16.6,-9.75) 132(16.6,-9.25) 133(16.6,-8.75) 134(16.6,-8.25) 135(16.6,-7.75) 136(16.6,-7.25) 137(16.6,-6.75) 138(16.6,-6.25) 139(16.6,-5.75) 140(16.6,-5.25) 141(16.6,-4.75) 142(16.6,-4.25) 143(16.6,-3.75) 144(16.6,-3.25) 145(16.6,-2.75) 146(16.6,-2.25) 147(16.6,-1.75) 148(16.6,-1.25) 149(16.6,-0.75) 150(16.6,-0.25) 151(16.6,0.25) 152(16.6,0.75) 153(16.6,1.25) 154(16.6,1.75) 155(16.6,2.25) 156(16.6,2.75) 157(16.6,3.25) 158(16.6,3.75) 159(16.6,4.25) 160(16.6,4.75) 161(16.6,5.25) 162(16.6,5.75) 163(16.6,6.25) 164(16.6,6.75) 165(16.6,7.25) 166(16.6,7.75) 167(16.6,8.25) 168(16.6,8.75) 169(16.6,9.25) 170(16.6,9.75) 171(16.6,10.25) 172(16.6,10.75) 173(16.6,11.25) 174(16.6,11.75) 175(16.6,12.25) 176(16.6,12.75) 177(16.6,13.25) 178(16.6,13.75) 179(16.6,14.25) 180(16.6,14.75)
  oval 0.3x2.1 smd: 61(-14.75,-16.6) 62(-14.25,-16.6) 63(-13.75,-16.6) 64(-13.25,-16.6) 65(-12.75,-16.6) 66(-12.25,-16.6) 67(-11.75,-16.6) 68(-11.25,-16.6) 69(-10.75,-16.6) 70(-10.25,-16.6) 71(-9.75,-16.6) 72(-9.25,-16.6) 73(-8.75,-16.6) 74(-8.25,-16.6) 75(-7.75,-16.6) 76(-7.25,-16.6) 77(-6.75,-16.6) 78(-6.25,-16.6) 79(-5.75,-16.6) 80(-5.25,-16.6) 81(-4.75,-16.6) 82(-4.25,-16.6) 83(-3.75,-16.6) 84(-3.25,-16.6) 85(-2.75,-16.6) 86(-2.25,-16.6) 87(-1.75,-16.6) 88(-1.25,-16.6) 89(-0.75,-16.6) 90(-0.25,-16.6) 91(0.25,-16.6) 92(0.75,-16.6) 93(1.25,-16.6) 94(1.75,-16.6) 95(2.25,-16.6) 96(2.75,-16.6) 97(3.25,-16.6) 98(3.75,-16.6) 99(4.25,-16.6) 100(4.75,-16.6) 101(5.25,-16.6) 102(5.75,-16.6) 103(6.25,-16.6) 104(6.75,-16.6) 105(7.25,-16.6) 106(7.75,-16.6) 107(8.25,-16.6) 108(8.75,-16.6) 109(9.25,-16.6) 110(9.75,-16.6) 111(10.25,-16.6) 112(10.75,-16.6) 113(11.25,-16.6) 114(11.75,-16.6) 115(12.25,-16.6) 116(12.75,-16.6) 117(13.25,-16.6) 118(13.75,-16.6) 119(14.25,-16.6) 120(14.75,-16.6) 181(14.75,16.6) 182(14.25,16.6) 183(13.75,16.6) 184(13.25,16.6) 185(12.75,16.6) 186(12.25,16.6) 187(11.75,16.6) 188(11.25,16.6) 189(10.75,16.6) 190(10.25,16.6) 191(9.75,16.6) 192(9.25,16.6) 193(8.75,16.6) 194(8.25,16.6) 195(7.75,16.6) 196(7.25,16.6) 197(6.75,16.6) 198(6.25,16.6) 199(5.75,16.6) 200(5.25,16.6) 201(4.75,16.6) 202(4.25,16.6) 203(3.75,16.6) 204(3.25,16.6) 205(2.75,16.6) 206(2.25,16.6) 207(1.75,16.6) 208(1.25,16.6) 209(0.75,16.6) 210(0.25,16.6) 211(-0.25,16.6) 212(-0.75,16.6) 213(-1.25,16.6) 214(-1.75,16.6) 215(-2.25,16.6) 216(-2.75,16.6) 217(-3.25,16.6) 218(-3.75,16.6) 219(-4.25,16.6) 220(-4.75,16.6) 221(-5.25,16.6) 222(-5.75,16.6) 223(-6.25,16.6) 224(-6.75,16.6) 225(-7.25,16.6) 226(-7.75,16.6) 227(-8.25,16.6) 228(-8.75,16.6) 229(-9.25,16.6) 230(-9.75,16.6) 231(-10.25,16.6) 232(-10.75,16.6) 233(-11.25,16.6) 234(-11.75,16.6) 235(-12.25,16.6) 236(-12.75,16.6) 237(-13.25,16.6) 238(-13.75,16.6) 239(-14.25,16.6) 240(-14.75,16.6)
Top Overlay:
  circle w0.6: c-14.15,14.15 r0.3
  circle w0.25: c-16.6,15.45 r0.125
  lines w0.2: -15.15,-15.15 15.15,-15.15 15.15,15.15 -15.15,15.15 -15.15,-15.15
Mechanical 13:
  circle w0.1: c-15.1,15.1 r0.5
  lines w0.1: -16,-16 16,-16 16,16 -16,16 -16,-16
Mechanical 15:
  lines w0.1: -0.5,0 0.5,0 ; 0,-0.5 0,0.5 ; -18.15,-18.15 18.15,-18.15 18.15,18.15 -18.15,18.15 -18.15,-18.15
3D body: height 4.2, standoff 0, extent -16,-16 16,16

## SQFP50P3400X3400-248M [mm] "Shrink QFP, 248-Leads, Body 32x32mm, Pitch 0.5mm, IPC Low Density"
height 4.2
pads (248):
  oval 2.1x0.3 smd: 1(-16.6,15.25) 2(-16.6,14.75) 3(-16.6,14.25) 4(-16.6,13.75) 5(-16.6,13.25) 6(-16.6,12.75) 7(-16.6,12.25) 8(-16.6,11.75) 9(-16.6,11.25) 10(-16.6,10.75) 11(-16.6,10.25) 12(-16.6,9.75) 13(-16.6,9.25) 14(-16.6,8.75) 15(-16.6,8.25) 16(-16.6,7.75) 17(-16.6,7.25) 18(-16.6,6.75) 19(-16.6,6.25) 20(-16.6,5.75) 21(-16.6,5.25) 22(-16.6,4.75) 23(-16.6,4.25) 24(-16.6,3.75) 25(-16.6,3.25) 26(-16.6,2.75) 27(-16.6,2.25) 28(-16.6,1.75) 29(-16.6,1.25) 30(-16.6,0.75) 31(-16.6,0.25) 32(-16.6,-0.25) 33(-16.6,-0.75) 34(-16.6,-1.25) 35(-16.6,-1.75) 36(-16.6,-2.25) 37(-16.6,-2.75) 38(-16.6,-3.25) 39(-16.6,-3.75) 40(-16.6,-4.25) 41(-16.6,-4.75) 42(-16.6,-5.25) 43(-16.6,-5.75) 44(-16.6,-6.25) 45(-16.6,-6.75) 46(-16.6,-7.25) 47(-16.6,-7.75) 48(-16.6,-8.25) 49(-16.6,-8.75) 50(-16.6,-9.25) 51(-16.6,-9.75) 52(-16.6,-10.25) 53(-16.6,-10.75) 54(-16.6,-11.25) 55(-16.6,-11.75) 56(-16.6,-12.25) 57(-16.6,-12.75) 58(-16.6,-13.25) 59(-16.6,-13.75) 60(-16.6,-14.25) 61(-16.6,-14.75) 62(-16.6,-15.25) 125(16.6,-15.25) 126(16.6,-14.75) 127(16.6,-14.25) 128(16.6,-13.75) 129(16.6,-13.25) 130(16.6,-12.75) 131(16.6,-12.25) 132(16.6,-11.75) 133(16.6,-11.25) 134(16.6,-10.75) 135(16.6,-10.25) 136(16.6,-9.75) 137(16.6,-9.25) 138(16.6,-8.75) 139(16.6,-8.25) 140(16.6,-7.75) 141(16.6,-7.25) 142(16.6,-6.75) 143(16.6,-6.25) 144(16.6,-5.75) 145(16.6,-5.25) 146(16.6,-4.75) 147(16.6,-4.25) 148(16.6,-3.75) 149(16.6,-3.25) 150(16.6,-2.75) 151(16.6,-2.25) 152(16.6,-1.75) 153(16.6,-1.25) 154(16.6,-0.75) 155(16.6,-0.25) 156(16.6,0.25) 157(16.6,0.75) 158(16.6,1.25) 159(16.6,1.75) 160(16.6,2.25) 161(16.6,2.75) 162(16.6,3.25) 163(16.6,3.75) 164(16.6,4.25) 165(16.6,4.75) 166(16.6,5.25) 167(16.6,5.75) 168(16.6,6.25) 169(16.6,6.75) 170(16.6,7.25) 171(16.6,7.75) 172(16.6,8.25) 173(16.6,8.75) 174(16.6,9.25) 175(16.6,9.75) 176(16.6,10.25) 177(16.6,10.75) 178(16.6,11.25) 179(16.6,11.75) 180(16.6,12.25) 181(16.6,12.75) 182(16.6,13.25) 183(16.6,13.75) 184(16.6,14.25) 185(16.6,14.75) 186(16.6,15.25)
  oval 0.3x2.1 smd: 63(-15.25,-16.6) 64(-14.75,-16.6) 65(-14.25,-16.6) 66(-13.75,-16.6) 67(-13.25,-16.6) 68(-12.75,-16.6) 69(-12.25,-16.6) 70(-11.75,-16.6) 71(-11.25,-16.6) 72(-10.75,-16.6) 73(-10.25,-16.6) 74(-9.75,-16.6) 75(-9.25,-16.6) 76(-8.75,-16.6) 77(-8.25,-16.6) 78(-7.75,-16.6) 79(-7.25,-16.6) 80(-6.75,-16.6) 81(-6.25,-16.6) 82(-5.75,-16.6) 83(-5.25,-16.6) 84(-4.75,-16.6) 85(-4.25,-16.6) 86(-3.75,-16.6) 87(-3.25,-16.6) 88(-2.75,-16.6) 89(-2.25,-16.6) 90(-1.75,-16.6) 91(-1.25,-16.6) 92(-0.75,-16.6) 93(-0.25,-16.6) 94(0.25,-16.6) 95(0.75,-16.6) 96(1.25,-16.6) 97(1.75,-16.6) 98(2.25,-16.6) 99(2.75,-16.6) 100(3.25,-16.6) 101(3.75,-16.6) 102(4.25,-16.6) 103(4.75,-16.6) 104(5.25,-16.6) 105(5.75,-16.6) 106(6.25,-16.6) 107(6.75,-16.6) 108(7.25,-16.6) 109(7.75,-16.6) 110(8.25,-16.6) 111(8.75,-16.6) 112(9.25,-16.6) 113(9.75,-16.6) 114(10.25,-16.6) 115(10.75,-16.6) 116(11.25,-16.6) 117(11.75,-16.6) 118(12.25,-16.6) 119(12.75,-16.6) 120(13.25,-16.6) 121(13.75,-16.6) 122(14.25,-16.6) 123(14.75,-16.6) 124(15.25,-16.6) 187(15.25,16.6) 188(14.75,16.6) 189(14.25,16.6) 190(13.75,16.6) 191(13.25,16.6) 192(12.75,16.6) 193(12.25,16.6) 194(11.75,16.6) 195(11.25,16.6) 196(10.75,16.6) 197(10.25,16.6) 198(9.75,16.6) 199(9.25,16.6) 200(8.75,16.6) 201(8.25,16.6) 202(7.75,16.6) 203(7.25,16.6) 204(6.75,16.6) 205(6.25,16.6) 206(5.75,16.6) 207(5.25,16.6) 208(4.75,16.6) 209(4.25,16.6) 210(3.75,16.6) 211(3.25,16.6) 212(2.75,16.6) 213(2.25,16.6) 214(1.75,16.6) 215(1.25,16.6) 216(0.75,16.6) 217(0.25,16.6) 218(-0.25,16.6) 219(-0.75,16.6) 220(-1.25,16.6) 221(-1.75,16.6) 222(-2.25,16.6) 223(-2.75,16.6) 224(-3.25,16.6) 225(-3.75,16.6) 226(-4.25,16.6) 227(-4.75,16.6) 228(-5.25,16.6) 229(-5.75,16.6) 230(-6.25,16.6) 231(-6.75,16.6) 232(-7.25,16.6) 233(-7.75,16.6) 234(-8.25,16.6) 235(-8.75,16.6) 236(-9.25,16.6) 237(-9.75,16.6) 238(-10.25,16.6) 239(-10.75,16.6) 240(-11.25,16.6) 241(-11.75,16.6) 242(-12.25,16.6) 243(-12.75,16.6) 244(-13.25,16.6) 245(-13.75,16.6) 246(-14.25,16.6) 247(-14.75,16.6) 248(-15.25,16.6)
Top Overlay:
  circle w0.6: c-14.15,14.15 r0.3
  circle w0.25: c-16.6,15.95 r0.125
  lines w0.2: -15.15,-15.15 15.15,-15.15 15.15,15.15 -15.15,15.15 -15.15,-15.15
Mechanical 13:
  circle w0.1: c-15.1,15.1 r0.5
  lines w0.1: -16,-16 16,-16 16,16 -16,16 -16,-16
Mechanical 15:
  lines w0.1: -0.5,0 0.5,0 ; 0,-0.5 0,0.5 ; -18.15,-18.15 18.15,-18.15 18.15,18.15 -18.15,18.15 -18.15,-18.15
3D body: height 4.2, standoff 0, extent -16,-16 16,16

## SQFP50P3460X3460-240M [mm] "Shrink QFP, 240-Leads, Body 32x32mm, Pitch 0.5mm, IPC Low Density"
height 4.1
pads (240):
  oval 2.1x0.3 smd: 1(-16.9,14.75) 2(-16.9,14.25) 3(-16.9,13.75) 4(-16.9,13.25) 5(-16.9,12.75) 6(-16.9,12.25) 7(-16.9,11.75) 8(-16.9,11.25) 9(-16.9,10.75) 10(-16.9,10.25) 11(-16.9,9.75) 12(-16.9,9.25) 13(-16.9,8.75) 14(-16.9,8.25) 15(-16.9,7.75) 16(-16.9,7.25) 17(-16.9,6.75) 18(-16.9,6.25) 19(-16.9,5.75) 20(-16.9,5.25) 21(-16.9,4.75) 22(-16.9,4.25) 23(-16.9,3.75) 24(-16.9,3.25) 25(-16.9,2.75) 26(-16.9,2.25) 27(-16.9,1.75) 28(-16.9,1.25) 29(-16.9,0.75) 30(-16.9,0.25) 31(-16.9,-0.25) 32(-16.9,-0.75) 33(-16.9,-1.25) 34(-16.9,-1.75) 35(-16.9,-2.25) 36(-16.9,-2.75) 37(-16.9,-3.25) 38(-16.9,-3.75) 39(-16.9,-4.25) 40(-16.9,-4.75) 41(-16.9,-5.25) 42(-16.9,-5.75) 43(-16.9,-6.25) 44(-16.9,-6.75) 45(-16.9,-7.25) 46(-16.9,-7.75) 47(-16.9,-8.25) 48(-16.9,-8.75) 49(-16.9,-9.25) 50(-16.9,-9.75) 51(-16.9,-10.25) 52(-16.9,-10.75) 53(-16.9,-11.25) 54(-16.9,-11.75) 55(-16.9,-12.25) 56(-16.9,-12.75) 57(-16.9,-13.25) 58(-16.9,-13.75) 59(-16.9,-14.25) 60(-16.9,-14.75) 121(16.9,-14.75) 122(16.9,-14.25) 123(16.9,-13.75) 124(16.9,-13.25) 125(16.9,-12.75) 126(16.9,-12.25) 127(16.9,-11.75) 128(16.9,-11.25) 129(16.9,-10.75) 130(16.9,-10.25) 131(16.9,-9.75) 132(16.9,-9.25) 133(16.9,-8.75) 134(16.9,-8.25) 135(16.9,-7.75) 136(16.9,-7.25) 137(16.9,-6.75) 138(16.9,-6.25) 139(16.9,-5.75) 140(16.9,-5.25) 141(16.9,-4.75) 142(16.9,-4.25) 143(16.9,-3.75) 144(16.9,-3.25) 145(16.9,-2.75) 146(16.9,-2.25) 147(16.9,-1.75) 148(16.9,-1.25) 149(16.9,-0.75) 150(16.9,-0.25) 151(16.9,0.25) 152(16.9,0.75) 153(16.9,1.25) 154(16.9,1.75) 155(16.9,2.25) 156(16.9,2.75) 157(16.9,3.25) 158(16.9,3.75) 159(16.9,4.25) 160(16.9,4.75) 161(16.9,5.25) 162(16.9,5.75) 163(16.9,6.25) 164(16.9,6.75) 165(16.9,7.25) 166(16.9,7.75) 167(16.9,8.25) 168(16.9,8.75) 169(16.9,9.25) 170(16.9,9.75) 171(16.9,10.25) 172(16.9,10.75) 173(16.9,11.25) 174(16.9,11.75) 175(16.9,12.25) 176(16.9,12.75) 177(16.9,13.25) 178(16.9,13.75) 179(16.9,14.25) 180(16.9,14.75)
  oval 0.3x2.1 smd: 61(-14.75,-16.9) 62(-14.25,-16.9) 63(-13.75,-16.9) 64(-13.25,-16.9) 65(-12.75,-16.9) 66(-12.25,-16.9) 67(-11.75,-16.9) 68(-11.25,-16.9) 69(-10.75,-16.9) 70(-10.25,-16.9) 71(-9.75,-16.9) 72(-9.25,-16.9) 73(-8.75,-16.9) 74(-8.25,-16.9) 75(-7.75,-16.9) 76(-7.25,-16.9) 77(-6.75,-16.9) 78(-6.25,-16.9) 79(-5.75,-16.9) 80(-5.25,-16.9) 81(-4.75,-16.9) 82(-4.25,-16.9) 83(-3.75,-16.9) 84(-3.25,-16.9) 85(-2.75,-16.9) 86(-2.25,-16.9) 87(-1.75,-16.9) 88(-1.25,-16.9) 89(-0.75,-16.9) 90(-0.25,-16.9) 91(0.25,-16.9) 92(0.75,-16.9) 93(1.25,-16.9) 94(1.75,-16.9) 95(2.25,-16.9) 96(2.75,-16.9) 97(3.25,-16.9) 98(3.75,-16.9) 99(4.25,-16.9) 100(4.75,-16.9) 101(5.25,-16.9) 102(5.75,-16.9) 103(6.25,-16.9) 104(6.75,-16.9) 105(7.25,-16.9) 106(7.75,-16.9) 107(8.25,-16.9) 108(8.75,-16.9) 109(9.25,-16.9) 110(9.75,-16.9) 111(10.25,-16.9) 112(10.75,-16.9) 113(11.25,-16.9) 114(11.75,-16.9) 115(12.25,-16.9) 116(12.75,-16.9) 117(13.25,-16.9) 118(13.75,-16.9) 119(14.25,-16.9) 120(14.75,-16.9) 181(14.75,16.9) 182(14.25,16.9) 183(13.75,16.9) 184(13.25,16.9) 185(12.75,16.9) 186(12.25,16.9) 187(11.75,16.9) 188(11.25,16.9) 189(10.75,16.9) 190(10.25,16.9) 191(9.75,16.9) 192(9.25,16.9) 193(8.75,16.9) 194(8.25,16.9) 195(7.75,16.9) 196(7.25,16.9) 197(6.75,16.9) 198(6.25,16.9) 199(5.75,16.9) 200(5.25,16.9) 201(4.75,16.9) 202(4.25,16.9) 203(3.75,16.9) 204(3.25,16.9) 205(2.75,16.9) 206(2.25,16.9) 207(1.75,16.9) 208(1.25,16.9) 209(0.75,16.9) 210(0.25,16.9) 211(-0.25,16.9) 212(-0.75,16.9) 213(-1.25,16.9) 214(-1.75,16.9) 215(-2.25,16.9) 216(-2.75,16.9) 217(-3.25,16.9) 218(-3.75,16.9) 219(-4.25,16.9) 220(-4.75,16.9) 221(-5.25,16.9) 222(-5.75,16.9) 223(-6.25,16.9) 224(-6.75,16.9) 225(-7.25,16.9) 226(-7.75,16.9) 227(-8.25,16.9) 228(-8.75,16.9) 229(-9.25,16.9) 230(-9.75,16.9) 231(-10.25,16.9) 232(-10.75,16.9) 233(-11.25,16.9) 234(-11.75,16.9) 235(-12.25,16.9) 236(-12.75,16.9) 237(-13.25,16.9) 238(-13.75,16.9) 239(-14.25,16.9) 240(-14.75,16.9)
Top Overlay:
  circle w0.6: c-14.45,14.45 r0.3
  circle w0.25: c-16.9,15.45 r0.125
  lines w0.2: -15.45,-15.45 15.45,-15.45 15.45,15.45 -15.45,15.45 -15.45,-15.45
Mechanical 13:
  circle w0.1: c-15.1,15.1 r0.5
  lines w0.1: -16,-16 16,-16 16,16 -16,16 -16,-16
Mechanical 15:
  lines w0.1: -0.5,0 0.5,0 ; 0,-0.5 0,0.5 ; -18.45,-18.45 18.45,-18.45 18.45,18.45 -18.45,18.45 -18.45,-18.45
3D body: height 4.1, standoff 0, extent -16,-16 16,16

## SQFP50P3800X3800-272M [mm] "Shrink QFP, 272-Leads, Body 36x36mm, Pitch 0.5mm, IPC Low Density"
height 4.2
pads (272):
  oval 2.1x0.3 smd: 1(-18.6,16.75) 2(-18.6,16.25) 3(-18.6,15.75) 4(-18.6,15.25) 5(-18.6,14.75) 6(-18.6,14.25) 7(-18.6,13.75) 8(-18.6,13.25) 9(-18.6,12.75) 10(-18.6,12.25) 11(-18.6,11.75) 12(-18.6,11.25) 13(-18.6,10.75) 14(-18.6,10.25) 15(-18.6,9.75) 16(-18.6,9.25) 17(-18.6,8.75) 18(-18.6,8.25) 19(-18.6,7.75) 20(-18.6,7.25) 21(-18.6,6.75) 22(-18.6,6.25) 23(-18.6,5.75) 24(-18.6,5.25) 25(-18.6,4.75) 26(-18.6,4.25) 27(-18.6,3.75) 28(-18.6,3.25) 29(-18.6,2.75) 30(-18.6,2.25) 31(-18.6,1.75) 32(-18.6,1.25) 33(-18.6,0.75) 34(-18.6,0.25) 35(-18.6,-0.25) 36(-18.6,-0.75) 37(-18.6,-1.25) 38(-18.6,-1.75) 39(-18.6,-2.25) 40(-18.6,-2.75) 41(-18.6,-3.25) 42(-18.6,-3.75) 43(-18.6,-4.25) 44(-18.6,-4.75) 45(-18.6,-5.25) 46(-18.6,-5.75) 47(-18.6,-6.25) 48(-18.6,-6.75) 49(-18.6,-7.25) 50(-18.6,-7.75) 51(-18.6,-8.25) 52(-18.6,-8.75) 53(-18.6,-9.25) 54(-18.6,-9.75) 55(-18.6,-10.25) 56(-18.6,-10.75) 57(-18.6,-11.25) 58(-18.6,-11.75) 59(-18.6,-12.25) 60(-18.6,-12.75) 61(-18.6,-13.25) 62(-18.6,-13.75) 63(-18.6,-14.25) 64(-18.6,-14.75) 65(-18.6,-15.25) 66(-18.6,-15.75) 67(-18.6,-16.25) 68(-18.6,-16.75) 137(18.6,-16.75) 138(18.6,-16.25) 139(18.6,-15.75) 140(18.6,-15.25) 141(18.6,-14.75) 142(18.6,-14.25) 143(18.6,-13.75) 144(18.6,-13.25) 145(18.6,-12.75) 146(18.6,-12.25) 147(18.6,-11.75) 148(18.6,-11.25) 149(18.6,-10.75) 150(18.6,-10.25) 151(18.6,-9.75) 152(18.6,-9.25) 153(18.6,-8.75) 154(18.6,-8.25) 155(18.6,-7.75) 156(18.6,-7.25) 157(18.6,-6.75) 158(18.6,-6.25) 159(18.6,-5.75) 160(18.6,-5.25) 161(18.6,-4.75) 162(18.6,-4.25) 163(18.6,-3.75) 164(18.6,-3.25) 165(18.6,-2.75) 166(18.6,-2.25) 167(18.6,-1.75) 168(18.6,-1.25) 169(18.6,-0.75) 170(18.6,-0.25) 171(18.6,0.25) 172(18.6,0.75) 173(18.6,1.25) 174(18.6,1.75) 175(18.6,2.25) 176(18.6,2.75) 177(18.6,3.25) 178(18.6,3.75) 179(18.6,4.25) 180(18.6,4.75) 181(18.6,5.25) 182(18.6,5.75) 183(18.6,6.25) 184(18.6,6.75) 185(18.6,7.25) 186(18.6,7.75) 187(18.6,8.25) 188(18.6,8.75) 189(18.6,9.25) 190(18.6,9.75) 191(18.6,10.25) 192(18.6,10.75) 193(18.6,11.25) 194(18.6,11.75) 195(18.6,12.25) 196(18.6,12.75) 197(18.6,13.25) 198(18.6,13.75) 199(18.6,14.25) 200(18.6,14.75) 201(18.6,15.25) 202(18.6,15.75) 203(18.6,16.25) 204(18.6,16.75)
  oval 0.3x2.1 smd: 69(-16.75,-18.6) 70(-16.25,-18.6) 71(-15.75,-18.6) 72(-15.25,-18.6) 73(-14.75,-18.6) 74(-14.25,-18.6) 75(-13.75,-18.6) 76(-13.25,-18.6) 77(-12.75,-18.6) 78(-12.25,-18.6) 79(-11.75,-18.6) 80(-11.25,-18.6) 81(-10.75,-18.6) 82(-10.25,-18.6) 83(-9.75,-18.6) 84(-9.25,-18.6) 85(-8.75,-18.6) 86(-8.25,-18.6) 87(-7.75,-18.6) 88(-7.25,-18.6) 89(-6.75,-18.6) 90(-6.25,-18.6) 91(-5.75,-18.6) 92(-5.25,-18.6) 93(-4.75,-18.6) 94(-4.25,-18.6) 95(-3.75,-18.6) 96(-3.25,-18.6) 97(-2.75,-18.6) 98(-2.25,-18.6) 99(-1.75,-18.6) 100(-1.25,-18.6) 101(-0.75,-18.6) 102(-0.25,-18.6) 103(0.25,-18.6) 104(0.75,-18.6) 105(1.25,-18.6) 106(1.75,-18.6) 107(2.25,-18.6) 108(2.75,-18.6) 109(3.25,-18.6) 110(3.75,-18.6) 111(4.25,-18.6) 112(4.75,-18.6) 113(5.25,-18.6) 114(5.75,-18.6) 115(6.25,-18.6) 116(6.75,-18.6) 117(7.25,-18.6) 118(7.75,-18.6) 119(8.25,-18.6) 120(8.75,-18.6) 121(9.25,-18.6) 122(9.75,-18.6) 123(10.25,-18.6) 124(10.75,-18.6) 125(11.25,-18.6) 126(11.75,-18.6) 127(12.25,-18.6) 128(12.75,-18.6) 129(13.25,-18.6) 130(13.75,-18.6) 131(14.25,-18.6) 132(14.75,-18.6) 133(15.25,-18.6) 134(15.75,-18.6) 135(16.25,-18.6) 136(16.75,-18.6) 205(16.75,18.6) 206(16.25,18.6) 207(15.75,18.6) 208(15.25,18.6) 209(14.75,18.6) 210(14.25,18.6) 211(13.75,18.6) 212(13.25,18.6) 213(12.75,18.6) 214(12.25,18.6) 215(11.75,18.6) 216(11.25,18.6) 217(10.75,18.6) 218(10.25,18.6) 219(9.75,18.6) 220(9.25,18.6) 221(8.75,18.6) 222(8.25,18.6) 223(7.75,18.6) 224(7.25,18.6) 225(6.75,18.6) 226(6.25,18.6) 227(5.75,18.6) 228(5.25,18.6) 229(4.75,18.6) 230(4.25,18.6) 231(3.75,18.6) 232(3.25,18.6) 233(2.75,18.6) 234(2.25,18.6) 235(1.75,18.6) 236(1.25,18.6) 237(0.75,18.6) 238(0.25,18.6) 239(-0.25,18.6) 240(-0.75,18.6) 241(-1.25,18.6) 242(-1.75,18.6) 243(-2.25,18.6) 244(-2.75,18.6) 245(-3.25,18.6) 246(-3.75,18.6) 247(-4.25,18.6) 248(-4.75,18.6) 249(-5.25,18.6) 250(-5.75,18.6) 251(-6.25,18.6) 252(-6.75,18.6) 253(-7.25,18.6) 254(-7.75,18.6) 255(-8.25,18.6) 256(-8.75,18.6) 257(-9.25,18.6) 258(-9.75,18.6) 259(-10.25,18.6) 260(-10.75,18.6) 261(-11.25,18.6) 262(-11.75,18.6) 263(-12.25,18.6) 264(-12.75,18.6) 265(-13.25,18.6) 266(-13.75,18.6) 267(-14.25,18.6) 268(-14.75,18.6) 269(-15.25,18.6) 270(-15.75,18.6) 271(-16.25,18.6) 272(-16.75,18.6)
Top Overlay:
  circle w0.6: c-16.15,16.15 r0.3
  circle w0.25: c-18.6,17.45 r0.125
  lines w0.2: -17.15,-17.15 17.15,-17.15 17.15,17.15 -17.15,17.15 -17.15,-17.15
Mechanical 13:
  circle w0.1: c-17.1,17.1 r0.5
  lines w0.1: -18,-18 18,-18 18,18 -18,18 -18,-18
Mechanical 15:
  lines w0.1: -0.5,0 0.5,0 ; 0,-0.5 0,0.5 ; -20.15,-20.15 20.15,-20.15 20.15,20.15 -20.15,20.15 -20.15,-20.15
3D body: height 4.2, standoff 0, extent -18,-18 18,18

## SQFP50P3800X3800-280M [mm] "Shrink QFP, 280-Leads, Body 36x36mm, Pitch 0.5mm, IPC Low Density"
height 4.2
pads (280):
  oval 2.1x0.3 smd: 1(-18.6,17.25) 2(-18.6,16.75) 3(-18.6,16.25) 4(-18.6,15.75) 5(-18.6,15.25) 6(-18.6,14.75) 7(-18.6,14.25) 8(-18.6,13.75) 9(-18.6,13.25) 10(-18.6,12.75) 11(-18.6,12.25) 12(-18.6,11.75) 13(-18.6,11.25) 14(-18.6,10.75) 15(-18.6,10.25) 16(-18.6,9.75) 17(-18.6,9.25) 18(-18.6,8.75) 19(-18.6,8.25) 20(-18.6,7.75) 21(-18.6,7.25) 22(-18.6,6.75) 23(-18.6,6.25) 24(-18.6,5.75) 25(-18.6,5.25) 26(-18.6,4.75) 27(-18.6,4.25) 28(-18.6,3.75) 29(-18.6,3.25) 30(-18.6,2.75) 31(-18.6,2.25) 32(-18.6,1.75) 33(-18.6,1.25) 34(-18.6,0.75) 35(-18.6,0.25) 36(-18.6,-0.25) 37(-18.6,-0.75) 38(-18.6,-1.25) 39(-18.6,-1.75) 40(-18.6,-2.25) 41(-18.6,-2.75) 42(-18.6,-3.25) 43(-18.6,-3.75) 44(-18.6,-4.25) 45(-18.6,-4.75) 46(-18.6,-5.25) 47(-18.6,-5.75) 48(-18.6,-6.25) 49(-18.6,-6.75) 50(-18.6,-7.25) 51(-18.6,-7.75) 52(-18.6,-8.25) 53(-18.6,-8.75) 54(-18.6,-9.25) 55(-18.6,-9.75) 56(-18.6,-10.25) 57(-18.6,-10.75) 58(-18.6,-11.25) 59(-18.6,-11.75) 60(-18.6,-12.25) 61(-18.6,-12.75) 62(-18.6,-13.25) 63(-18.6,-13.75) 64(-18.6,-14.25) 65(-18.6,-14.75) 66(-18.6,-15.25) 67(-18.6,-15.75) 68(-18.6,-16.25) 69(-18.6,-16.75) 70(-18.6,-17.25) 141(18.6,-17.25) 142(18.6,-16.75) 143(18.6,-16.25) 144(18.6,-15.75) 145(18.6,-15.25) 146(18.6,-14.75) 147(18.6,-14.25) 148(18.6,-13.75) 149(18.6,-13.25) 150(18.6,-12.75) 151(18.6,-12.25) 152(18.6,-11.75) 153(18.6,-11.25) 154(18.6,-10.75) 155(18.6,-10.25) 156(18.6,-9.75) 157(18.6,-9.25) 158(18.6,-8.75) 159(18.6,-8.25) 160(18.6,-7.75) 161(18.6,-7.25) 162(18.6,-6.75) 163(18.6,-6.25) 164(18.6,-5.75) 165(18.6,-5.25) 166(18.6,-4.75) 167(18.6,-4.25) 168(18.6,-3.75) 169(18.6,-3.25) 170(18.6,-2.75) 171(18.6,-2.25) 172(18.6,-1.75) 173(18.6,-1.25) 174(18.6,-0.75) 175(18.6,-0.25) 176(18.6,0.25) 177(18.6,0.75) 178(18.6,1.25) 179(18.6,1.75) 180(18.6,2.25) 181(18.6,2.75) 182(18.6,3.25) 183(18.6,3.75) 184(18.6,4.25) 185(18.6,4.75) 186(18.6,5.25) 187(18.6,5.75) 188(18.6,6.25) 189(18.6,6.75) 190(18.6,7.25) 191(18.6,7.75) 192(18.6,8.25) 193(18.6,8.75) 194(18.6,9.25) 195(18.6,9.75) 196(18.6,10.25) 197(18.6,10.75) 198(18.6,11.25) 199(18.6,11.75) 200(18.6,12.25) 201(18.6,12.75) 202(18.6,13.25) 203(18.6,13.75) 204(18.6,14.25) 205(18.6,14.75) 206(18.6,15.25) 207(18.6,15.75) 208(18.6,16.25) 209(18.6,16.75) 210(18.6,17.25)
  oval 0.3x2.1 smd: 71(-17.25,-18.6) 72(-16.75,-18.6) 73(-16.25,-18.6) 74(-15.75,-18.6) 75(-15.25,-18.6) 76(-14.75,-18.6) 77(-14.25,-18.6) 78(-13.75,-18.6) 79(-13.25,-18.6) 80(-12.75,-18.6) 81(-12.25,-18.6) 82(-11.75,-18.6) 83(-11.25,-18.6) 84(-10.75,-18.6) 85(-10.25,-18.6) 86(-9.75,-18.6) 87(-9.25,-18.6) 88(-8.75,-18.6) 89(-8.25,-18.6) 90(-7.75,-18.6) 91(-7.25,-18.6) 92(-6.75,-18.6) 93(-6.25,-18.6) 94(-5.75,-18.6) 95(-5.25,-18.6) 96(-4.75,-18.6) 97(-4.25,-18.6) 98(-3.75,-18.6) 99(-3.25,-18.6) 100(-2.75,-18.6) 101(-2.25,-18.6) 102(-1.75,-18.6) 103(-1.25,-18.6) 104(-0.75,-18.6) 105(-0.25,-18.6) 106(0.25,-18.6) 107(0.75,-18.6) 108(1.25,-18.6) 109(1.75,-18.6) 110(2.25,-18.6) 111(2.75,-18.6) 112(3.25,-18.6) 113(3.75,-18.6) 114(4.25,-18.6) 115(4.75,-18.6) 116(5.25,-18.6) 117(5.75,-18.6) 118(6.25,-18.6) 119(6.75,-18.6) 120(7.25,-18.6) 121(7.75,-18.6) 122(8.25,-18.6) 123(8.75,-18.6) 124(9.25,-18.6) 125(9.75,-18.6) 126(10.25,-18.6) 127(10.75,-18.6) 128(11.25,-18.6) 129(11.75,-18.6) 130(12.25,-18.6) 131(12.75,-18.6) 132(13.25,-18.6) 133(13.75,-18.6) 134(14.25,-18.6) 135(14.75,-18.6) 136(15.25,-18.6) 137(15.75,-18.6) 138(16.25,-18.6) 139(16.75,-18.6) 140(17.25,-18.6) 211(17.25,18.6) 212(16.75,18.6) 213(16.25,18.6) 214(15.75,18.6) 215(15.25,18.6) 216(14.75,18.6) 217(14.25,18.6) 218(13.75,18.6) 219(13.25,18.6) 220(12.75,18.6) 221(12.25,18.6) 222(11.75,18.6) 223(11.25,18.6) 224(10.75,18.6) 225(10.25,18.6) 226(9.75,18.6) 227(9.25,18.6) 228(8.75,18.6) 229(8.25,18.6) 230(7.75,18.6) 231(7.25,18.6) 232(6.75,18.6) 233(6.25,18.6) 234(5.75,18.6) 235(5.25,18.6) 236(4.75,18.6) 237(4.25,18.6) 238(3.75,18.6) 239(3.25,18.6) 240(2.75,18.6) 241(2.25,18.6) 242(1.75,18.6) 243(1.25,18.6) 244(0.75,18.6) 245(0.25,18.6) 246(-0.25,18.6) 247(-0.75,18.6) 248(-1.25,18.6) 249(-1.75,18.6) 250(-2.25,18.6) 251(-2.75,18.6) 252(-3.25,18.6) 253(-3.75,18.6) 254(-4.25,18.6) 255(-4.75,18.6) 256(-5.25,18.6) 257(-5.75,18.6) 258(-6.25,18.6) 259(-6.75,18.6) 260(-7.25,18.6) 261(-7.75,18.6) 262(-8.25,18.6) 263(-8.75,18.6) 264(-9.25,18.6) 265(-9.75,18.6) 266(-10.25,18.6) 267(-10.75,18.6) 268(-11.25,18.6) 269(-11.75,18.6) 270(-12.25,18.6) 271(-12.75,18.6) 272(-13.25,18.6) 273(-13.75,18.6) 274(-14.25,18.6) 275(-14.75,18.6) 276(-15.25,18.6) 277(-15.75,18.6) 278(-16.25,18.6) 279(-16.75,18.6) 280(-17.25,18.6)
Top Overlay:
  circle w0.6: c-16.15,16.15 r0.3
  circle w0.25: c-18.6,17.95 r0.125
  lines w0.2: -17.15,-17.15 17.15,-17.15 17.15,17.15 -17.15,17.15 -17.15,-17.15
Mechanical 13:
  circle w0.1: c-17.1,17.1 r0.5
  lines w0.1: -18,-18 18,-18 18,18 -18,18 -18,-18
Mechanical 15:
  lines w0.1: -0.5,0 0.5,0 ; 0,-0.5 0,0.5 ; -20.15,-20.15 20.15,-20.15 20.15,20.15 -20.15,20.15 -20.15,-20.15
3D body: height 4.2, standoff 0, extent -18,-18 18,18